# EAGLE library part LTC1682 (library linear_tech_opendcc)
LTC1682 - Doubler Charge Pumps with Low Noise Linear Regulator Low Output Noise: 60µVRMS (100kHz BW) Adjustable or Fixed Boosted Output Adjustable Output Voltage Range: 2.5V to 5.5V Fixed Output Voltages: 3.3V, 5V Wide Input Voltage Range: 1.8V to 4.4V
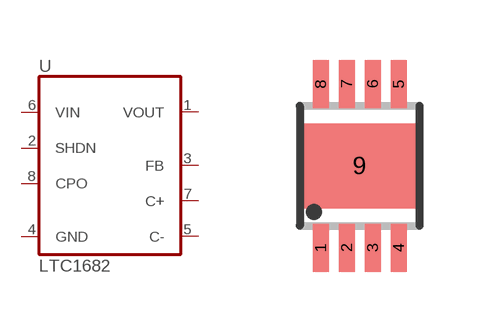
[diagram p0: symbol with the pads of MSOP8; footprint MSOP8]

Designator prefix -

## LTC1682  [MSOP8]
1  VOUT  out
2  SHDN  in
3  FB  out
4  GND  pwr
5  C-  pwr
6  VIN  in
7  C+  in
8  CPO  in

## Footprint MSOP8 (pad centres in mm)
MSOP8
smd 0.4 x 1.2: 1 -0.975,-2.05; 2 -0.325,-2.05; 3 0.325,-2.05; 4 0.975,-2.05; 5 0.975,2.05; 6 0.325,2.05; 7 -0.325,2.05; 8 -0.975,2.05
smd 1.27 x 0.635: 9 0,0